# EAGLE library part 613032143121 (library Wurth_Elektronik_Electromechanic_Board_to_Board_Connectors_rev16a)
WR-PHD 2.54mm Angled Socket Header,32 Pins =>Code : Con_BTB_SHD_2.54_1_THT_613032143121 <http://katalog.we-online.de/media/images/eican/Con_BTB_SHD_2.54_1_THT_6130xx143121_pf2.jpg> Details see: http://katalog.we-online.de/en/em/613_0xx_143_121 Created 2014-05-29, Karrer Zheng 2014 (C) Würth Elektronik
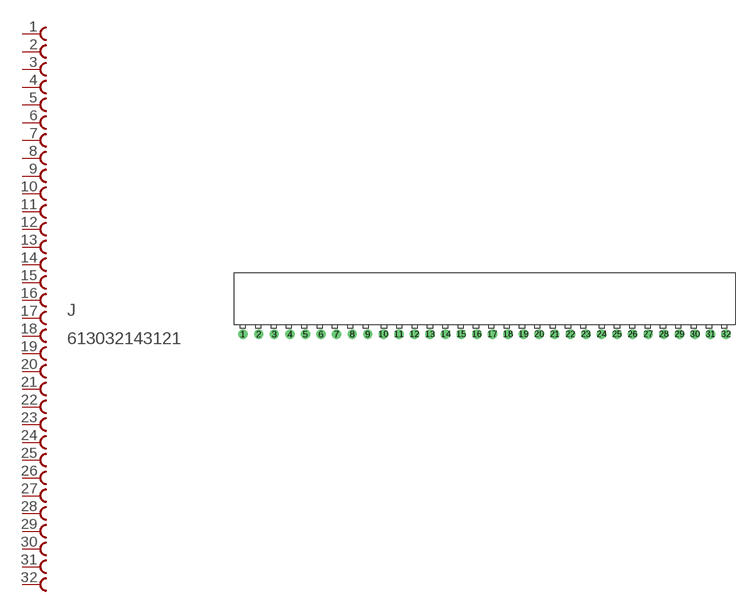
[diagram p145: symbol with the pads of 613032143121; footprint 613032143121]

Designator prefix J

## 613032143121  [613032143121]
1  1  pas
2  2  pas
3  3  pas
4  4  pas
5  5  pas
6  6  pas
7  7  pas
8  8  pas
9  9  pas
10  10  pas
11  11  pas
12  12  pas
13  13  pas
14  14  pas
15  15  pas
16  16  pas
17  17  pas
18  18  pas
19  19  pas
20  20  pas
21  21  pas
22  22  pas
23  23  pas
24  24  pas
25  25  pas
26  26  pas
27  27  pas
28  28  pas
29  29  pas
30  30  pas
31  31  pas
32  32  pas

## Footprint 613032143121 (pad centres in mm)
WR-PHD 2.54mm Angled Socket Header, 32 Pins
drill 1.02: 1 -60.96,0; 2 -58.42,0; 3 -55.88,0; 4 -53.34,0; 5 -50.8,0; 6 -48.26,0; 7 -45.72,0; 8 -43.18,0; 9 -40.64,0; 10 -38.1,0; 11 -35.56,0; 12 -33.02,0; 13 -30.48,0; 14 -27.94,0; 15 -25.4,0; 16 -22.86,0; 17 -20.32,0; 18 -17.78,0; 19 -15.24,0; 20 -12.7,0; 21 -10.16,0; 22 -7.62,0; 23 -5.08,0; 24 -2.54,0; 25 0,0; 26 2.54,0; 27 5.08,0; 28 7.62,0; 29 10.16,0; 30 12.7,0; 31 15.24,0; 32 17.78,0